# Altium footprint library DIODE.PCBLIB: 50 footprints (part 4 of 4)
Each footprint in its own frame and in the unit in brackets; x right, y up, seen from the top. Pads: shape width x height; smd on the part's side, far side on the other; paste and mask are expansions set on the pad; w line width, h text height; cw(c..) or ccw(c..) is an arc to the next point about the centre after c.
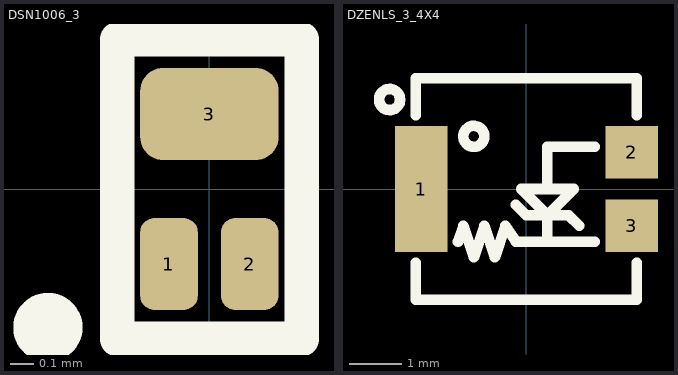
[diagram p3: the footprints below, top view; thin cyan lines are the x and y axes]

## DSN1006_3 [mm] "X2-DSN1006-3, 1X0.6X0.35mm"
height 0.35
pads (3):
  rrect50% 0.25x0.4 smd paste-0.025 mask+0.05: 1(-0.175,-0.325) 2(0.175,-0.325)
  rrect50% 0.6x0.4 smd paste-0.05 mask+0.05: 3(0,0.325)
Top Overlay:
  circle w0.2: c-0.7,-0.6 r0.05
  lines w0.15: -0.4,-0.65 0.4,-0.65 0.4,0.65 -0.4,0.65 -0.4,-0.65
3D body "X1-DFN1006-3.stp": height 0.5, standoff 0, extent -0.3,-0.5 0.3,0.5

## DZENLS_3_4X4 [mm]
pads (3):
  rect 1x2.4 smd mask+0.1: 1(-2,0)
  rect 1x1 smd mask+0.1: 2(2,0.7) 3(2,-0.7)
Top Overlay:
  circle w0.2: c-1,1 r0.2
  circle w0.2: c-2.6,1.7 r0.2
  lines w0.2: -2.1,-1.4 -2.1,-2.1 2.1,-2.1 2.1,-1.4 ; -2.1,1.4 -2.1,2.1 2.1,2.1 2.1,1.4 ; -1.3,-1 -1.2,-0.7 -1,-1.3 -0.8,-0.7 -0.6,-1.3 -0.4,-0.7 -0.2,-1 0.4,-1 ; -0.2,-0.3 0,-0.5 0.8,-0.5 1,-0.7 ; 0.4,0 0.4,0.8 1.3,0.8 ; 1.3,-1 0.4,-1 ; 0.4,-1 0.4,-0.5 ; 0.4,-0.5 0.9,0 -0.1,0 0.4,-0.5 ; 0.5,-0.5 0.5,-0.5
3D body: height 2, standoff 0, extent -2,-2 2,2